# Altium footprint library PcbLib1.PcbLib: 5 footprints
Each footprint in its own frame and in the unit in brackets; x right, y up, seen from the top. Pads: shape width x height; smd on the part's side, far side on the other; paste and mask are expansions set on the pad; w line width, h text height; cw(c..) or ccw(c..) is an arc to the next point about the centre after c.
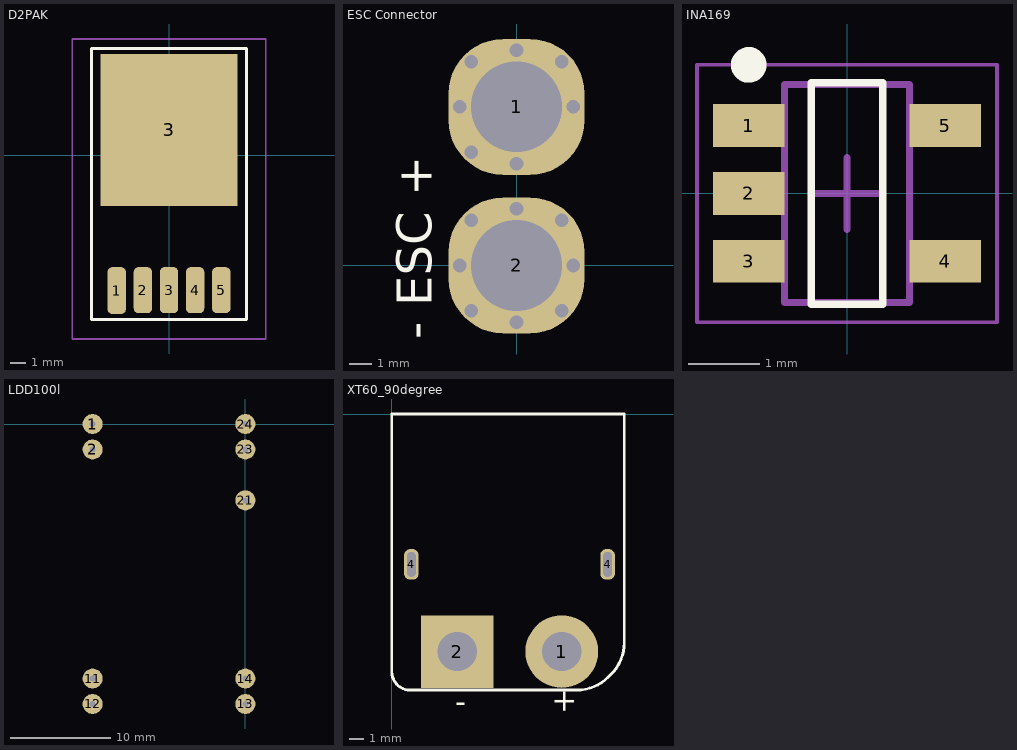
[diagram p0: the footprints below, top view; thin cyan lines are the x and y axes]

## D2PAK [mm]
pads (6):
  rrect50% 1.2x3.075 smd: 1(-3.429,-8.89)
  rrect50% 1.2x3.015 smd: 2(-1.714,-8.86) 3(0,-8.86) 4(1.714,-8.86) 5(3.429,-8.86)
  rect 9x10 smd: 3(0,1.651)
Top Overlay:
  lines w0.2: -5.08,-10.795 -5.08,-3.175 -5.08,6.985 5.08,6.985 5.08,-10.795 -5.08,-10.795
Mechanical 15:
  lines w0.1: -1.524,0 1.524,0 ; 0,-1.524 0,1.524 ; -6.35,-12.065 -6.35,-2.032 -6.35,7.62 6.35,7.62 6.35,-12.065 -6.35,-12.065
3D body "TO263-5-1.stp": height 4.22, standoff 0, extent -4.911,-9.561 4.911,5.041

## ESC Connector [mm]
pads (2):
  rrect80% 6x6 hole 4: 1(0,7)
  rrect80% 6x6 / inner rrect90% 6x4 / far side rrect90% 6x4 hole 4: 2(0,0)
via 0,2.5 diameter 0.8 hole 0.6
via 2.5,0 diameter 0.8 hole 0.6
via 0,-2.5 diameter 0.8 hole 0.6
via -2.5,0 diameter 0.8 hole 0.6
via -2,2 diameter 0.8 hole 0.6
via 2,2 diameter 0.8 hole 0.6
via 2,-2 diameter 0.8 hole 0.6
via -2,-2 diameter 0.8 hole 0.6
via 0,9.5 diameter 0.8 hole 0.6
via 2.5,7 diameter 0.8 hole 0.6
via -2,5 diameter 0.8 hole 0.6
via -2.5,7 diameter 0.8 hole 0.6
via -2,9 diameter 0.8 hole 0.6
via 2,9 diameter 0.8 hole 0.6
via 0,4.5 diameter 0.8 hole 0.6
Top Overlay:
  text "- ESC +" at -3.754,-3.246 h1.55

## INA169 [mm] "SOT23, 5-Leads, Body 2,90x2,80mm, Pitch 0,95mm, IPC Medium Density"
height 1.45
pads (5):
  rect 1x0.6 smd: 1(-1.375,0.95) 2(-1.375,0) 3(-1.375,-0.95) 4(1.375,-0.95) 5(1.375,0.95)
Top Overlay:
  circle w0.25: c-1.375,1.8 r0.125
  lines w0.1: -0.5,-1.55 -0.5,1.55 0.5,1.55 0.5,-1.55 -0.5,-1.55
Mechanical 13:
  lines w0.1: -0.875,-1.525 0.875,-1.525 0.875,1.525 -0.875,1.525 -0.875,-1.525
Mechanical 15:
  lines w0.05: -2.1,-1.8 2.1,-1.8 2.1,1.8 -2.1,1.8 -2.1,-1.8
  lines w0.1: -0.5,0 0.5,0 ; 0,-0.5 0,0.5
3D body "INA169.step": height 1.45, standoff 0, extent -1.5,-1.525 1.5,1.525

## LDD100l [mm]
pads (9):
  round 2 hole 0.6: 1(-15.24,0) 2(-15.24,-2.54) 11(-15.24,-25.4) 12(-15.24,-27.94) 13(0,-27.94) 14(0,-25.4) 21(0,-7.62) 23(0,-2.54) 24(0,0)
3D body "meanwell-ldd-h.step": height 12.21, standoff -2.9, extent -17.792,-29.829 2.552,2.032

## XT60_90degree [mm]
pads (4):
  round 5 hole 2.7: 1(11.7,-16.35)
  rect 5x5 hole 2.7: 2(4.5,-16.35)
  rrect80% 1x2.1 hole 0.6 slot 1.7 at 90 deg: 4(1.35,-10.35) 4(14.85,-10.35)
Top Overlay:
  lines w0.2: 0,-14 0,0 16,0 16,-15.73 cw(c12.934,-15.73) 15.102,-17.898 14.898,-18.102 cw(c12.73,-15.934) 12.73,-19 2.27,-19 1.27,-19 cw(c1.27,-17.73) 0,-17.73 0,-13.5
  text "-" at 5.121,-19.379 h1.52
  text "+" at 12.55,-20.645 h1.52
3D body "User Library-XT60IPW-M--3DModel-STEP-56544.step": height 9.2, standoff -1.75, extent 0.325,-17.6 15.825,0